# EAGLE library part AP63300 (library ICs)
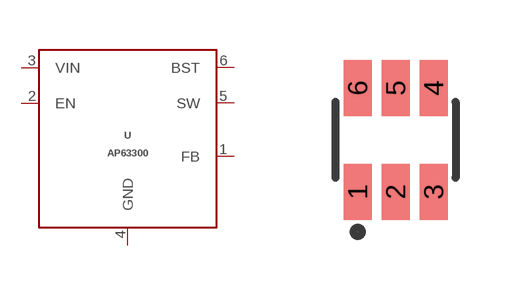
[diagram p37: symbol with the pads of TSOT26; footprint TSOT26]

Designator prefix U

## AP63300  [TSOT26]
1  FB
2  EN
3  VIN
4  GND
5  SW
6  BST

## Footprint TSOT26 (pad centres in mm)
smd 0.7 x 1.4: 1 -0.95,-1.3; 2 0,-1.3; 3 0.95,-1.3; 4 0.95,1.3; 5 0,1.3; 6 -0.95,1.3